# Altium schematic symbol library LP2985.SchLib: 18 symbols
Pins are listed as number, name and electrical type; pins without a type are passive.

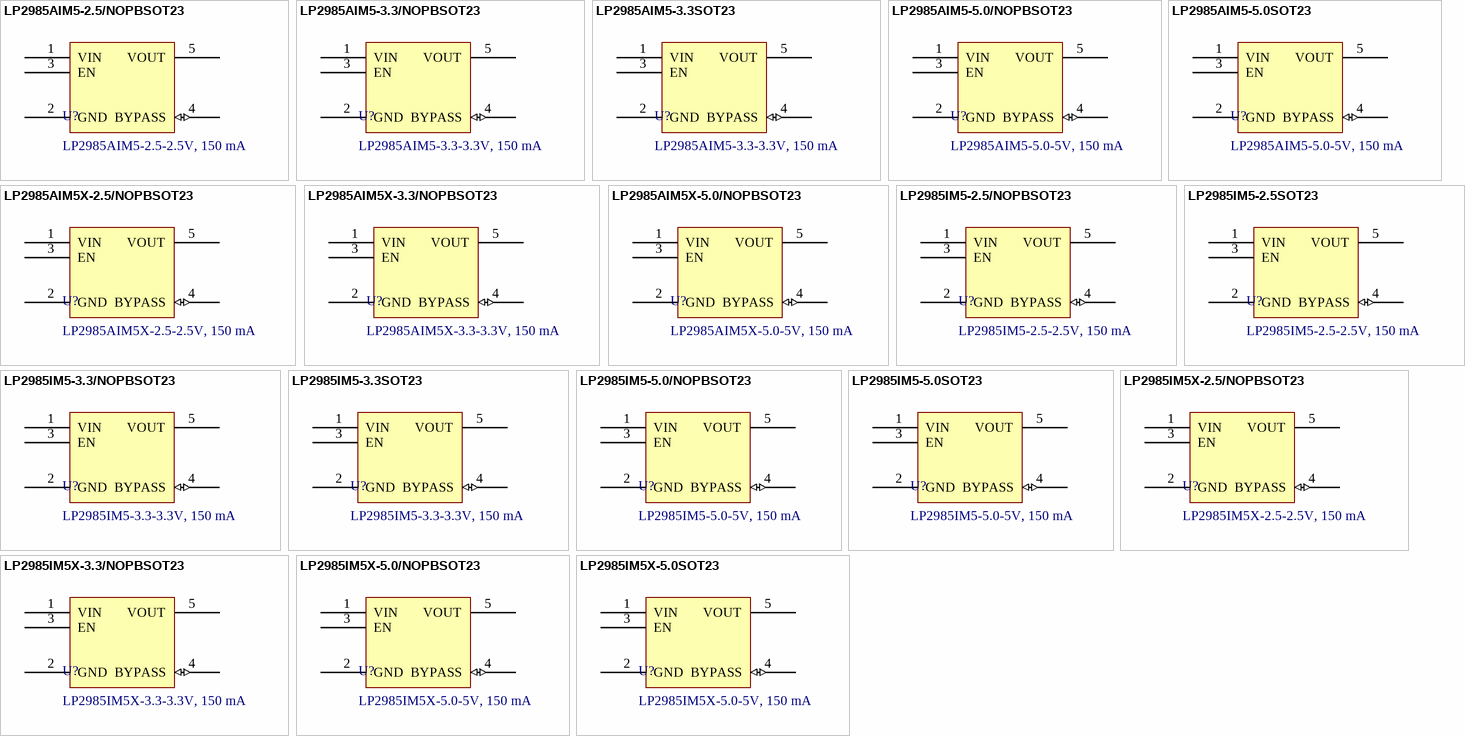
[diagram p0: symbols LP2985AIM5-2.5/NOPBSOT23 to LP2985IM5X-5.0SOT23]

## LP2985AIM5-2.5/NOPBSOT23
designator U?, comment LP2985AIM5-2.5-2.5V, 150 mA
Out: 2.5V, 150 mA max; In: 2.5 V to 16 V; Pacakge: SOT-23-5; Manufacturer: Texas Instruments; Number of Outputs: 150 mA; Voltage Input Maximum: 16V; Supplier 1 URL: https://www.mouser.vn/ProductDetail/Texas-Instruments/LP2985AIM5-2.5-NOPB?qs=7lkVKPoqpbYqZbTWBUr%2FQA%3D%3D; Supplier 2 URL: https://www.digikey.com/en/products/detail/texas-instruments/LP2985AIM5-2-5-NOPB/364583; Supplier 3 URL: N/A; Value: LP2985AIM5-2.5-2.5V, 150 mA; Voltage Output: 2.5V; Manufacturer Part Number: LP2985AIM5-2.5; Mount: SMD/SMT; Operating Temperature Max: + 85 C; Operating Temperature Min: - 40 C; Package / Case: SOT-23-5; Packaging: Tape and Reel; Supplier 1: Mouser; Supplier 1 Part Number: 926-LP2985AIM525NOPB; Supplier 2: Digi-Key; Supplier 2 Part Number: LP2985AIM5-2.5/NOPBTR-ND; Supplier 3: thegioiic; Supplier 3 Part Number: N/A; ComponentLink1Description: Datasheet; ComponentLink1URL: https://www.ti.com/lit/ds/symlink/lp2985.pdf?ts=1690340207505&ref_url=https%253A%252F%252Fwww.ti.com%252Fproduct%252FLP2985%253FkeyMatch%253DLM2985; LCSC Part #: N/A; Voltage Input Minimum: 2.5V
footprint SOT23-5 (SOT143-4 as used in SP0503BAHTG)
pins: 1 VIN (power) "Input supply pin. Use a capacitor with a value of 1 µF or larger from this pin to ground.", 2 GND, 3 EN "Enable pin for the LDO. Driving the ON/OFF pin high enables the device. Driving this pin low", 4 BYPASS (io) "BYPASS pin to achieve low noise performance. Connecting an external capacitor between", 5 VOUT (power) "Output of the regulator. Use a capacitor with a value of 2.2 µF or larger from this pin to"

## LP2985AIM5-3.3/NOPBSOT23
designator U?, comment LP2985AIM5-3.3-3.3V, 150 mA
Out: 3.3V, 150 mA max; In: 2.5 V to 16 V; Pacakge: SOT-23-5; Manufacturer: Texas Instruments; Number of Outputs: 150 mA; Voltage Input Maximum: 16V; Voltage Input Minimum: 2.5V; Supplier 1 URL: https://www.mouser.vn/ProductDetail/Texas-Instruments/LP2985AIM5-3.3-NOPB?qs=7lkVKPoqpba5AgutHXBYsA%3D%3D; Supplier 2 URL: https://www.digikey.com/en/products/detail/texas-instruments/LP2985AIM5-3-3-NOPB/364589?s=N4IgTCBcDaIDIAUwE4AcBWAggSQLLoFoBmAOiIHoA5AeQQCEQBdAXyA; Supplier 3 URL: https://www.thegioiic.com/lp2985-33dbvr-ic-on-ap-3-3v-150ma; Value: LP2985AIM5-3.3-3.3V, 150 mA; Voltage Output: 3.3V; Manufacturer Part Number: LP2985AIM5-3.3; Mount: SMD/SMT; Operating Temperature Max: + 85 C; Operating Temperature Min: - 40 C; Package / Case: SOT-23-5; Packaging: Tape and Reel; Supplier 1: Mouser; Supplier 1 Part Number: 926-2985AIM53.3/NOPB; Supplier 2: Digi-Key; Supplier 2 Part Number: LP2985AIM5-3.3/NOPBTR-ND; Supplier 3: thegioiic; Supplier 3 Part Number: N/A; ComponentLink1Description: Datasheet; ComponentLink1URL: https://www.ti.com/lit/ds/symlink/lp2985.pdf?ts=1690340207505&ref_url=https%253A%252F%252Fwww.ti.com%252Fproduct%252FLP2985%253FkeyMatch%253DLM2985; LCSC Part #: N/A
footprint SOT23-5 (SOT143-4 as used in SP0503BAHTG)
pins: 1 VIN (power) "Input supply pin. Use a capacitor with a value of 1 µF or larger from this pin to ground.", 2 GND, 3 EN "Enable pin for the LDO. Driving the ON/OFF pin high enables the device. Driving this pin low", 4 BYPASS (io) "BYPASS pin to achieve low noise performance. Connecting an external capacitor between", 5 VOUT (power) "Output of the regulator. Use a capacitor with a value of 2.2 µF or larger from this pin to"

## LP2985AIM5-3.3SOT23
designator U?, comment LP2985AIM5-3.3-3.3V, 150 mA
Out: 3.3V, 150 mA max; In: 2.5 V to 16 V; Pacakge: SOT-23-5; Manufacturer: Texas Instruments; Number of Outputs: 150 mA; Voltage Input Maximum: 16V; Voltage Input Minimum: 2.5V; Supplier 1 URL: https://www.mouser.vn/ProductDetail/Texas-Instruments/LP2985AIM5-3.3?qs=7lkVKPoqpbarLAafn%252BUbQg%3D%3D; Supplier 2 URL: https://www.digikey.com/en/products/detail/texas-instruments/LP2985AIM5-3-3/3698168; Supplier 3 URL: https://www.thegioiic.com/lp2985-33dbvr-ic-on-ap-3-3v-150ma; Value: LP2985AIM5-3.3-3.3V, 150 mA; Voltage Output: 3.3V; Manufacturer Part Number: LP2985AIM5-3.3; Mount: SMD/SMT; Operating Temperature Max: + 85 C; Operating Temperature Min: - 40 C; Package / Case: SOT-23-5; Packaging: Tape and Reel; Supplier 1: Mouser; Supplier 1 Part Number: 926-LP2985AIM5-33; Supplier 2: Digi-Key; Supplier 2 Part Number: 296-35910-2-ND; Supplier 3: thegioiic; Supplier 3 Part Number: N/A; ComponentLink1Description: Datasheet; ComponentLink1URL: https://www.ti.com/lit/ds/symlink/lp2985.pdf?ts=1690340207505&ref_url=https%253A%252F%252Fwww.ti.com%252Fproduct%252FLP2985%253FkeyMatch%253DLM2985; LCSC Part #: N/A
footprint SOT23-5 (SOT143-4 as used in SP0503BAHTG)
pins: 1 VIN (power) "Input supply pin. Use a capacitor with a value of 1 µF or larger from this pin to ground.", 2 GND, 3 EN "Enable pin for the LDO. Driving the ON/OFF pin high enables the device. Driving this pin low", 4 BYPASS (io) "BYPASS pin to achieve low noise performance. Connecting an external capacitor between", 5 VOUT (power) "Output of the regulator. Use a capacitor with a value of 2.2 µF or larger from this pin to"

## LP2985AIM5-5.0/NOPBSOT23
designator U?, comment LP2985AIM5-5.0-5V, 150 mA
Out: 5V, 150 mA max; In: 2.5 V to 16 V; Pacakge: SOT-23-5; Manufacturer: Texas Instruments; Number of Outputs: 150 mA; Voltage Input Maximum: 16V; Voltage Input Minimum: 2.5V; Supplier 1 URL: https://www.mouser.vn/ProductDetail/Texas-Instruments/LP2985AIM5-5.0-NOPB?qs=7lkVKPoqpbYsAhhQ4Pn4Tg%3D%3D; Supplier 2 URL: https://www.digikey.com/en/products/detail/texas-instruments/LP2985AIM5-5-0-NOPB/364591?s=N4IgTCBcDaIDIAUwE4AcBWAggSQLLoFp0A6ABgHoA5AeQQCEQBdAXyA; Supplier 3 URL: N/A; Value: LP2985AIM5-5.0-5V, 150 mA; Voltage Output: 5V; Manufacturer Part Number: LP2985AIM5-5.0; Mount: SMD/SMT; Operating Temperature Max: + 85 C; Operating Temperature Min: - 40 C; Package / Case: SOT-23-5; Packaging: Tape and Reel; Supplier 1: Mouser; Supplier 1 Part Number: 926-LP2985AIM550NOPB; Supplier 2: Digi-Key; Supplier 2 Part Number: LP2985AIM5-5.0/NOPBTR-ND; Supplier 3: thegioiic; Supplier 3 Part Number: N/A; ComponentLink1Description: Datasheet; ComponentLink1URL: https://www.ti.com/lit/ds/symlink/lp2985.pdf?ts=1690340207505&ref_url=https%253A%252F%252Fwww.ti.com%252Fproduct%252FLP2985%253FkeyMatch%253DLM2985; LCSC Part #: N/A
footprint SOT23-5 (SOT143-4 as used in SP0503BAHTG)
pins: 1 VIN (power) "Input supply pin. Use a capacitor with a value of 1 µF or larger from this pin to ground.", 2 GND, 3 EN "Enable pin for the LDO. Driving the ON/OFF pin high enables the device. Driving this pin low", 4 BYPASS (io) "BYPASS pin to achieve low noise performance. Connecting an external capacitor between", 5 VOUT (power) "Output of the regulator. Use a capacitor with a value of 2.2 µF or larger from this pin to"

## LP2985AIM5-5.0SOT23
designator U?, comment LP2985AIM5-5.0-5V, 150 mA
Out: 5V, 150 mA max; In: 2.5 V to 16 V; Pacakge: SOT-23-5; Manufacturer: Texas Instruments; Number of Outputs: 150 mA; Voltage Input Maximum: 16V; Voltage Input Minimum: 2.5V; Supplier 1 URL: https://www.mouser.vn/ProductDetail/Texas-Instruments/LP2985AIM5-5.0?qs=7lkVKPoqpba3%2FL%2F%2FI3%252BCew%3D%3D; Supplier 2 URL: https://www.digikey.com/en/products/detail/texas-instruments/LP2985AIM5-5-0/3701435; Supplier 3 URL: N/A; Value: LP2985AIM5-5.0-5V, 150 mA; Voltage Output: 5V; Manufacturer Part Number: LP2985AIM5-5.0; Mount: SMD/SMT; Operating Temperature Max: + 85 C; Operating Temperature Min: - 40 C; Package / Case: SOT-23-5; Packaging: Tape and Reel; Supplier 1: Mouser; Supplier 1 Part Number: 926-LP2985AIM5-50; Supplier 2: Digi-Key; Supplier 2 Part Number: LP2985AIM5-5.0TR-ND; Supplier 3: thegioiic; Supplier 3 Part Number: N/A; ComponentLink1Description: Datasheet; ComponentLink1URL: https://www.ti.com/lit/ds/symlink/lp2985.pdf?ts=1690340207505&ref_url=https%253A%252F%252Fwww.ti.com%252Fproduct%252FLP2985%253FkeyMatch%253DLM2985; LCSC Part #: N/A
footprint SOT23-5 (SOT143-4 as used in SP0503BAHTG)
pins: 1 VIN (power) "Input supply pin. Use a capacitor with a value of 1 µF or larger from this pin to ground.", 2 GND, 3 EN "Enable pin for the LDO. Driving the ON/OFF pin high enables the device. Driving this pin low", 4 BYPASS (io) "BYPASS pin to achieve low noise performance. Connecting an external capacitor between", 5 VOUT (power) "Output of the regulator. Use a capacitor with a value of 2.2 µF or larger from this pin to"

## LP2985AIM5X-2.5/NOPBSOT23
designator U?, comment LP2985AIM5X-2.5-2.5V, 150 mA
Out: 2.5V, 150 mA max; In: 2.5 V to 16 V; Pacakge: SOT-23-5; Manufacturer: Texas Instruments; Number of Outputs: 150 mA; Voltage Input Maximum: 16V; Supplier 1 URL: https://www.mouser.vn/ProductDetail/Texas-Instruments/LP2985AIM5X-2.5-NOPB?qs=7lkVKPoqpbYgRY%252BBsOv68w%3D%3D; Supplier 2 URL: https://www.digikey.com/en/products/detail/texas-instruments/LP2985AIM5X-2-5-NOPB/367665; Supplier 3 URL: N/A; Value: LP2985AIM5X-2.5-2.5V, 150 mA; Voltage Output: 2.5V; Manufacturer Part Number: LP2985AIM5X-2.5; Mount: SMD/SMT; Operating Temperature Max: + 85 C; Operating Temperature Min: - 40 C; Package / Case: SOT-23-5; Packaging: Tape and Reel; Supplier 1: Mouser; Supplier 1 Part Number: 926-LP2985AIM5X25NPB; Supplier 2: Digi-Key; Supplier 2 Part Number: 296-LP2985AIM5X-2.5/NOPBTR-ND; Supplier 3: thegioiic; Supplier 3 Part Number: N/A; ComponentLink1Description: Datasheet; ComponentLink1URL: https://www.ti.com/lit/ds/symlink/lp2985.pdf?ts=1690340207505&ref_url=https%253A%252F%252Fwww.ti.com%252Fproduct%252FLP2985%253FkeyMatch%253DLM2985; LCSC Part #: N/A; Voltage Input Minimum: 2.5V
footprint SOT23-5 (SOT143-4 as used in SP0503BAHTG)
pins: 1 VIN (power) "Input supply pin. Use a capacitor with a value of 1 µF or larger from this pin to ground.", 2 GND, 3 EN "Enable pin for the LDO. Driving the ON/OFF pin high enables the device. Driving this pin low", 4 BYPASS (io) "BYPASS pin to achieve low noise performance. Connecting an external capacitor between", 5 VOUT (power) "Output of the regulator. Use a capacitor with a value of 2.2 µF or larger from this pin to"

## LP2985AIM5X-3.3/NOPBSOT23
designator U?, comment LP2985AIM5X-3.3-3.3V, 150 mA
Out: 3.3V, 150 mA max; In: 2.5 V to 16 V; Pacakge: SOT-23-5; Manufacturer: Texas Instruments; Number of Outputs: 150 mA; Voltage Input Maximum: 16V; Voltage Input Minimum: 2.5V; Supplier 1 URL: https://www.mouser.vn/ProductDetail/Texas-Instruments/LP2985AIM5X-3.3-NOPB?qs=7lkVKPoqpbbp4pIqwI%2FBiQ%3D%3D; Supplier 2 URL: https://www.digikey.com/en/products/detail/texas-instruments/LP2985AIM5X-3-3-NOPB/367668; Supplier 3 URL: https://www.thegioiic.com/lp2985-33dbvr-ic-on-ap-3-3v-150ma; Value: LP2985AIM5X-3.3-3.3V, 150 mA; Voltage Output: 3.3V; Manufacturer Part Number: LP2985AIM5X-3.3; Mount: SMD/SMT; Operating Temperature Max: + 85 C; Operating Temperature Min: - 40 C; Package / Case: SOT-23-5; Packaging: Tape and Reel; Supplier 1: Mouser; Supplier 1 Part Number: 926-LP2985AIM5X33NPB; Supplier 2: Digi-Key; Supplier 2 Part Number: LP2985AIM5X-3.3/NOPBTR-ND; Supplier 3: thegioiic; Supplier 3 Part Number: N/A; ComponentLink1Description: Datasheet; ComponentLink1URL: https://www.ti.com/lit/ds/symlink/lp2985.pdf?ts=1690340207505&ref_url=https%253A%252F%252Fwww.ti.com%252Fproduct%252FLP2985%253FkeyMatch%253DLM2985; LCSC Part #: N/A
footprint SOT23-5 (SOT143-4 as used in SP0503BAHTG)
pins: 1 VIN (power) "Input supply pin. Use a capacitor with a value of 1 µF or larger from this pin to ground.", 2 GND, 3 EN "Enable pin for the LDO. Driving the ON/OFF pin high enables the device. Driving this pin low", 4 BYPASS (io) "BYPASS pin to achieve low noise performance. Connecting an external capacitor between", 5 VOUT (power) "Output of the regulator. Use a capacitor with a value of 2.2 µF or larger from this pin to"

## LP2985AIM5X-5.0/NOPBSOT23
designator U?, comment LP2985AIM5X-5.0-5V, 150 mA
Out: 5V, 150 mA max; In: 2.5 V to 16 V; Pacakge: SOT-23-5; Manufacturer: Texas Instruments; Number of Outputs: 150 mA; Voltage Input Maximum: 16V; Voltage Input Minimum: 2.5V; Supplier 1 URL: https://www.mouser.vn/ProductDetail/Texas-Instruments/LP2985AIM5X-5.0-NOPB?qs=7lkVKPoqpbZIPiotm0OF3A%3D%3D; Supplier 2 URL: https://www.digikey.com/en/products/detail/texas-instruments/LP2985AIM5X-5-0-NOPB/367669; Supplier 3 URL: N/A; Value: LP2985AIM5X-5.0-5V, 150 mA; Voltage Output: 5V; Manufacturer Part Number: LP2985AIM5X-5.0; Mount: SMD/SMT; Operating Temperature Max: + 85 C; Operating Temperature Min: - 40 C; Package / Case: SOT-23-5; Packaging: Tape and Reel; Supplier 1: Mouser; Supplier 1 Part Number: 926-LP2985AIM5X50NPB; Supplier 2: Digi-Key; Supplier 2 Part Number: LP2985AIM5X-5.0/NOPBTR-ND; Supplier 3: thegioiic; Supplier 3 Part Number: N/A; ComponentLink1Description: Datasheet; ComponentLink1URL: https://www.ti.com/lit/ds/symlink/lp2985.pdf?ts=1690340207505&ref_url=https%253A%252F%252Fwww.ti.com%252Fproduct%252FLP2985%253FkeyMatch%253DLM2985; LCSC Part #: N/A
footprint SOT23-5 (SOT143-4 as used in SP0503BAHTG)
pins: 1 VIN (power) "Input supply pin. Use a capacitor with a value of 1 µF or larger from this pin to ground.", 2 GND, 3 EN "Enable pin for the LDO. Driving the ON/OFF pin high enables the device. Driving this pin low", 4 BYPASS (io) "BYPASS pin to achieve low noise performance. Connecting an external capacitor between", 5 VOUT (power) "Output of the regulator. Use a capacitor with a value of 2.2 µF or larger from this pin to"

## LP2985IM5-2.5/NOPBSOT23
designator U?, comment LP2985IM5-2.5-2.5V, 150 mA
Out: 2.5V, 150 mA max; In: 2.5 V to 16 V; Pacakge: SOT-23-5; Manufacturer: Texas Instruments; Number of Outputs: 150 mA; Voltage Input Maximum: 16V; Supplier 1 URL: https://www.mouser.vn/ProductDetail/Texas-Instruments/LP2985IM5-2.5-NOPB?qs=7lkVKPoqpbaMRafyDveXFA%3D%3D; Supplier 2 URL: https://www.digikey.com/en/products/detail/texas-instruments/LP2985IM5-2-5-NOPB/364601; Supplier 3 URL: N/A; Value: LP2985IM5-2.5-2.5V, 150 mA; Voltage Output: 2.5V; Manufacturer Part Number: LP2985IM5-2.5; Mount: SMD/SMT; Operating Temperature Max: + 85 C; Operating Temperature Min: - 40 C; Package / Case: SOT-23-5; Packaging: Tape and Reel; Supplier 1: Mouser; Supplier 1 Part Number: 926-2985IM5-2.5/NOPB; Supplier 2: Digi-Key; Supplier 2 Part Number: LP2985IM5-2.5/NOPBTR-ND; Supplier 3: thegioiic; Supplier 3 Part Number: N/A; ComponentLink1Description: Datasheet; ComponentLink1URL: https://www.ti.com/lit/ds/symlink/lp2985.pdf?ts=1690340207505&ref_url=https%253A%252F%252Fwww.ti.com%252Fproduct%252FLP2985%253FkeyMatch%253DLM2985; LCSC Part #: N/A; Voltage Input Minimum: 2.5V
footprint SOT23-5 (SOT143-4 as used in SP0503BAHTG)
pins: 1 VIN (power) "Input supply pin. Use a capacitor with a value of 1 µF or larger from this pin to ground.", 2 GND, 3 EN "Enable pin for the LDO. Driving the ON/OFF pin high enables the device. Driving this pin low", 4 BYPASS (io) "BYPASS pin to achieve low noise performance. Connecting an external capacitor between", 5 VOUT (power) "Output of the regulator. Use a capacitor with a value of 2.2 µF or larger from this pin to"

## LP2985IM5-2.5SOT23
designator U?, comment LP2985IM5-2.5-2.5V, 150 mA
Out: 2.5V, 150 mA max; In: 2.5 V to 16 V; Pacakge: SOT-23-5; Manufacturer: Texas Instruments; Number of Outputs: 150 mA; Voltage Input Maximum: 16V; Supplier 1 URL: https://www.mouser.vn/ProductDetail/Texas-Instruments/LP2985IM5-2.5?qs=7lkVKPoqpbbb%2FE%2FIZr0hmA%3D%3D; Supplier 2 URL: https://www.digikey.com/en/products/detail/texas-instruments/LP2985IM5-2-5/2352713; Supplier 3 URL: N/A; Value: LP2985IM5-2.5-2.5V, 150 mA; Voltage Output: 2.5V; Manufacturer Part Number: LP2985IM5-2.5; Mount: SMD/SMT; Operating Temperature Max: + 85 C; Operating Temperature Min: - 40 C; Package / Case: SOT-23-5; Packaging: Tape and Reel; Supplier 1: Mouser; Supplier 1 Part Number: 926-LP2985IM5-25; Supplier 2: Digi-Key; Supplier 2 Part Number: 296-36265-2-ND; Supplier 3: thegioiic; Supplier 3 Part Number: N/A; ComponentLink1Description: Datasheet; ComponentLink1URL: https://www.ti.com/lit/ds/symlink/lp2985.pdf?ts=1690340207505&ref_url=https%253A%252F%252Fwww.ti.com%252Fproduct%252FLP2985%253FkeyMatch%253DLM2985; LCSC Part #: N/A; Voltage Input Minimum: 2.5V
footprint SOT23-5 (SOT143-4 as used in SP0503BAHTG)
pins: 1 VIN (power) "Input supply pin. Use a capacitor with a value of 1 µF or larger from this pin to ground.", 2 GND, 3 EN "Enable pin for the LDO. Driving the ON/OFF pin high enables the device. Driving this pin low", 4 BYPASS (io) "BYPASS pin to achieve low noise performance. Connecting an external capacitor between", 5 VOUT (power) "Output of the regulator. Use a capacitor with a value of 2.2 µF or larger from this pin to"

## LP2985IM5-3.3/NOPBSOT23
designator U?, comment LP2985IM5-3.3-3.3V, 150 mA
Out: 3.3V, 150 mA max; In: 2.5 V to 16 V; Pacakge: SOT-23-5; Manufacturer: Texas Instruments; Number of Outputs: 150 mA; Voltage Input Maximum: 16V; Voltage Input Minimum: 2.5V; Supplier 1 URL: https://www.mouser.vn/ProductDetail/Texas-Instruments/LP2985IM5-3.3-NOPB?qs=7lkVKPoqpbYPPbypQ1RJZg%3D%3D; Supplier 2 URL: https://www.digikey.com/en/products/detail/texas-instruments/LP2985IM5-3-3-NOPB/334961?s=N4IgTCBcDaIDIAUwE4AcBWAkgWXQWgGYA6AgegDkB5BAIRAF0BfIA; Supplier 3 URL: https://www.thegioiic.com/lp2985-33dbvr-ic-on-ap-3-3v-150ma; Value: LP2985IM5-3.3-3.3V, 150 mA; Voltage Output: 3.3V; Manufacturer Part Number: LP2985IM5-3.3; Mount: SMD/SMT; Operating Temperature Max: + 85 C; Operating Temperature Min: - 40 C; Package / Case: SOT-23-5; Packaging: Tape and Reel; Supplier 1: Mouser; Supplier 1 Part Number: 926-2985IM5-3.3/NOPB; Supplier 2: Digi-Key; Supplier 2 Part Number: LP2985IM5-3.3/NOPBTR-ND; Supplier 3: thegioiic; Supplier 3 Part Number: N/A; ComponentLink1Description: Datasheet; ComponentLink1URL: https://www.ti.com/lit/ds/symlink/lp2985.pdf?ts=1690340207505&ref_url=https%253A%252F%252Fwww.ti.com%252Fproduct%252FLP2985%253FkeyMatch%253DLM2985; LCSC Part #: N/A
footprint SOT23-5 (SOT143-4 as used in SP0503BAHTG)
pins: 1 VIN (power) "Input supply pin. Use a capacitor with a value of 1 µF or larger from this pin to ground.", 2 GND, 3 EN "Enable pin for the LDO. Driving the ON/OFF pin high enables the device. Driving this pin low", 4 BYPASS (io) "BYPASS pin to achieve low noise performance. Connecting an external capacitor between", 5 VOUT (power) "Output of the regulator. Use a capacitor with a value of 2.2 µF or larger from this pin to"

## LP2985IM5-3.3SOT23
designator U?, comment LP2985IM5-3.3-3.3V, 150 mA
Out: 3.3V, 150 mA max; In: 2.5 V to 16 V; Pacakge: SOT-23-5; Manufacturer: Texas Instruments; Number of Outputs: 150 mA; Voltage Input Maximum: 16V; Voltage Input Minimum: 2.5V; Supplier 1 URL: https://www.mouser.vn/ProductDetail/Texas-Instruments/LP2985IM5-3.3?qs=7lkVKPoqpbYyrbwrqf2JcA%3D%3D; Supplier 2 URL: https://www.digikey.com/en/products/detail/texas-instruments/LP2985IM5-3-3/3701436; Supplier 3 URL: https://www.thegioiic.com/lp2985-33dbvr-ic-on-ap-3-3v-150ma; Value: LP2985IM5-3.3-3.3V, 150 mA; Voltage Output: 3.3V; Manufacturer Part Number: LP2985IM5-3.3; Mount: SMD/SMT; Operating Temperature Max: + 85 C; Operating Temperature Min: - 40 C; Package / Case: SOT-23-5; Packaging: Tape and Reel; Supplier 1: Mouser; Supplier 1 Part Number: 926-LP2985IM5-33; Supplier 2: Digi-Key; Supplier 2 Part Number: LP2985IM5-3.3TR-ND; Supplier 3: thegioiic; Supplier 3 Part Number: N/A; ComponentLink1Description: Datasheet; ComponentLink1URL: https://www.ti.com/lit/ds/symlink/lp2985.pdf?ts=1690340207505&ref_url=https%253A%252F%252Fwww.ti.com%252Fproduct%252FLP2985%253FkeyMatch%253DLM2985; LCSC Part #: N/A
footprint SOT23-5 (SOT143-4 as used in SP0503BAHTG)
pins: 1 VIN (power) "Input supply pin. Use a capacitor with a value of 1 µF or larger from this pin to ground.", 2 GND, 3 EN "Enable pin for the LDO. Driving the ON/OFF pin high enables the device. Driving this pin low", 4 BYPASS (io) "BYPASS pin to achieve low noise performance. Connecting an external capacitor between", 5 VOUT (power) "Output of the regulator. Use a capacitor with a value of 2.2 µF or larger from this pin to"

## LP2985IM5-5.0/NOPBSOT23
designator U?, comment LP2985IM5-5.0-5V, 150 mA
Out: 5V, 150 mA max; In: 2.5 V to 16 V; Pacakge: SOT-23-5; Manufacturer: Texas Instruments; Number of Outputs: 150 mA; Voltage Input Maximum: 16V; Voltage Input Minimum: 2.5V; Supplier 1 URL: https://www.mouser.vn/ProductDetail/Texas-Instruments/LP2985IM5-5.0-NOPB?qs=7lkVKPoqpbY2QdMGYKhTqw%3D%3D; Supplier 2 URL: https://www.digikey.com/en/products/detail/texas-instruments/LP2985IM5-5-0-NOPB/334960?s=N4IgTCBcDaIDIAUwE4AcBWAkgWXQWnQDoAGAegDkB5BAIRAF0BfIA; Supplier 3 URL: N/A; Value: LP2985IM5-5.0-5V, 150 mA; Voltage Output: 5V; Manufacturer Part Number: LP2985IM5-5.0; Mount: SMD/SMT; Operating Temperature Max: + 85 C; Operating Temperature Min: - 40 C; Package / Case: SOT-23-5; Packaging: Tape and Reel; Supplier 1: Mouser; Supplier 1 Part Number: 926-LP2985IM55.0NOPB; Supplier 2: Digi-Key; Supplier 2 Part Number: LP2985IM5-5.0/NOPBTR-ND; Supplier 3: thegioiic; Supplier 3 Part Number: N/A; ComponentLink1Description: Datasheet; ComponentLink1URL: https://www.ti.com/lit/ds/symlink/lp2985.pdf?ts=1690340207505&ref_url=https%253A%252F%252Fwww.ti.com%252Fproduct%252FLP2985%253FkeyMatch%253DLM2985; LCSC Part #: N/A
footprint SOT23-5 (SOT143-4 as used in SP0503BAHTG)
pins: 1 VIN (power) "Input supply pin. Use a capacitor with a value of 1 µF or larger from this pin to ground.", 2 GND, 3 EN "Enable pin for the LDO. Driving the ON/OFF pin high enables the device. Driving this pin low", 4 BYPASS (io) "BYPASS pin to achieve low noise performance. Connecting an external capacitor between", 5 VOUT (power) "Output of the regulator. Use a capacitor with a value of 2.2 µF or larger from this pin to"

## LP2985IM5-5.0SOT23
designator U?, comment LP2985IM5-5.0-5V, 150 mA
Out: 5V, 150 mA max; In: 2.5 V to 16 V; Pacakge: SOT-23-5; Manufacturer: Texas Instruments; Number of Outputs: 150 mA; Voltage Input Maximum: 16V; Voltage Input Minimum: 2.5V; Supplier 1 URL: https://www.mouser.vn/ProductDetail/Texas-Instruments/LP2985IM5-5.0?qs=7lkVKPoqpbb8j6wBLu7kIA%3D%3D; Supplier 2 URL: https://www.digikey.com/en/products/detail/texas-instruments/LP2985IM5-5-0/3701437; Supplier 3 URL: N/A; Value: LP2985IM5-5.0-5V, 150 mA; Voltage Output: 5V; Manufacturer Part Number: LP2985IM5-5.0; Mount: SMD/SMT; Operating Temperature Max: + 85 C; Operating Temperature Min: - 40 C; Package / Case: SOT-23-5; Packaging: Tape and Reel; Supplier 1: Mouser; Supplier 1 Part Number: 926-LP2985IM5-50; Supplier 2: Digi-Key; Supplier 2 Part Number: LP2985IM5-5.0TR-ND; Supplier 3: thegioiic; Supplier 3 Part Number: N/A; ComponentLink1Description: Datasheet; ComponentLink1URL: https://www.ti.com/lit/ds/symlink/lp2985.pdf?ts=1690340207505&ref_url=https%253A%252F%252Fwww.ti.com%252Fproduct%252FLP2985%253FkeyMatch%253DLM2985; LCSC Part #: N/A
footprint SOT23-5 (SOT143-4 as used in SP0503BAHTG)
pins: 1 VIN (power) "Input supply pin. Use a capacitor with a value of 1 µF or larger from this pin to ground.", 2 GND, 3 EN "Enable pin for the LDO. Driving the ON/OFF pin high enables the device. Driving this pin low", 4 BYPASS (io) "BYPASS pin to achieve low noise performance. Connecting an external capacitor between", 5 VOUT (power) "Output of the regulator. Use a capacitor with a value of 2.2 µF or larger from this pin to"

## LP2985IM5X-2.5/NOPBSOT23
designator U?, comment LP2985IM5X-2.5-2.5V, 150 mA
Out: 2.5V, 150 mA max; In: 2.5 V to 16 V; Pacakge: SOT-23-5; Manufacturer: Texas Instruments; Number of Outputs: 150 mA; Voltage Input Maximum: 16V; Supplier 1 URL: https://www.mouser.vn/ProductDetail/Texas-Instruments/LP2985IM5X-2.5-NOPB?qs=7lkVKPoqpbaNr2n6OKnAUQ%3D%3D; Supplier 2 URL: https://www.digikey.com/en/products/detail/texas-instruments/LP2985IM5X-2-5-NOPB/367675?s=N4IgTCBcDaIDIAUwE4AcBWAkgWXQDQFowA6dAegDkB5BAIRAF0BfIA; Supplier 3 URL: N/A; Value: LP2985IM5X-2.5-2.5V, 150 mA; Voltage Output: 2.5V; Manufacturer Part Number: LP2985IM5X-2.5; Mount: SMD/SMT; Operating Temperature Max: + 85 C; Operating Temperature Min: - 40 C; Package / Case: SOT-23-5; Packaging: Tape and Reel; Supplier 1: Mouser; Supplier 1 Part Number: 926-LP2985IM5X25NOPB; Supplier 2: Digi-Key; Supplier 2 Part Number: 296-37597-2-ND; Supplier 3: thegioiic; Supplier 3 Part Number: N/A; ComponentLink1Description: Datasheet; ComponentLink1URL: https://www.ti.com/lit/ds/symlink/lp2985.pdf?ts=1690340207505&ref_url=https%253A%252F%252Fwww.ti.com%252Fproduct%252FLP2985%253FkeyMatch%253DLM2985; LCSC Part #: N/A; Voltage Input Minimum: 2.5V
footprint SOT23-5 (SOT143-4 as used in SP0503BAHTG)
pins: 1 VIN (power) "Input supply pin. Use a capacitor with a value of 1 µF or larger from this pin to ground.", 2 GND, 3 EN "Enable pin for the LDO. Driving the ON/OFF pin high enables the device. Driving this pin low", 4 BYPASS (io) "BYPASS pin to achieve low noise performance. Connecting an external capacitor between", 5 VOUT (power) "Output of the regulator. Use a capacitor with a value of 2.2 µF or larger from this pin to"

## LP2985IM5X-3.3/NOPBSOT23
designator U?, comment LP2985IM5X-3.3-3.3V, 150 mA
Out: 3.3V, 150 mA max; In: 2.5 V to 16 V; Pacakge: SOT-23-5; Manufacturer: Texas Instruments; Number of Outputs: 150 mA; Voltage Input Maximum: 16V; Voltage Input Minimum: 2.5V; Supplier 1 URL: https://www.mouser.vn/ProductDetail/Texas-Instruments/LP2985IM5X-3.3-NOPB?qs=7lkVKPoqpbarYOItF3geeg%3D%3D; Supplier 2 URL: https://www.digikey.com/en/products/detail/texas-instruments/LP2985IM5X-3-3-NOPB/367679; Supplier 3 URL: https://www.thegioiic.com/lp2985-33dbvr-ic-on-ap-3-3v-150ma; Value: LP2985IM5X-3.3-3.3V, 150 mA; Voltage Output: 3.3V; Manufacturer Part Number: LP2985IM5X-3.3; Mount: SMD/SMT; Operating Temperature Max: + 85 C; Operating Temperature Min: - 40 C; Package / Case: SOT-23-5; Packaging: Tape and Reel; Supplier 1: Mouser; Supplier 1 Part Number: 926-LP2985IM5X33NOPB; Supplier 2: Digi-Key; Supplier 2 Part Number: LP2985IM5X-3.3/NOPBTR-ND; Supplier 3: thegioiic; Supplier 3 Part Number: N/A; ComponentLink1Description: Datasheet; ComponentLink1URL: https://www.ti.com/lit/ds/symlink/lp2985.pdf?ts=1690340207505&ref_url=https%253A%252F%252Fwww.ti.com%252Fproduct%252FLP2985%253FkeyMatch%253DLM2985; LCSC Part #: N/A
footprint SOT23-5 (SOT143-4 as used in SP0503BAHTG)
pins: 1 VIN (power) "Input supply pin. Use a capacitor with a value of 1 µF or larger from this pin to ground.", 2 GND, 3 EN "Enable pin for the LDO. Driving the ON/OFF pin high enables the device. Driving this pin low", 4 BYPASS (io) "BYPASS pin to achieve low noise performance. Connecting an external capacitor between", 5 VOUT (power) "Output of the regulator. Use a capacitor with a value of 2.2 µF or larger from this pin to"

## LP2985IM5X-5.0/NOPBSOT23
designator U?, comment LP2985IM5X-5.0-5V, 150 mA
Out: 5V, 150 mA max; In: 2.5 V to 16 V; Pacakge: SOT-23-5; Manufacturer: Texas Instruments; Number of Outputs: 150 mA; Voltage Input Maximum: 16V; Voltage Input Minimum: 2.5V; Supplier 1 URL: https://www.mouser.vn/ProductDetail/Texas-Instruments/LP2985IM5X-5.0-NOPB?qs=7lkVKPoqpbZqObksDd83dw%3D%3D; Supplier 2 URL: https://www.digikey.com/en/products/detail/texas-instruments/LP2985IM5X-5-0-NOPB/367680; Supplier 3 URL: N/A; Value: LP2985IM5X-5.0-5V, 150 mA; Voltage Output: 5V; Manufacturer Part Number: LP2985IM5X-5.0; Mount: SMD/SMT; Operating Temperature Max: + 85 C; Operating Temperature Min: - 40 C; Package / Case: SOT-23-5; Packaging: Tape and Reel; Supplier 1: Mouser; Supplier 1 Part Number: 926-LP2985IM5X50NOPB; Supplier 2: Digi-Key; Supplier 2 Part Number: LP2985IM5X-5.0/NOPBTR-ND; Supplier 3: thegioiic; Supplier 3 Part Number: N/A; ComponentLink1Description: Datasheet; ComponentLink1URL: https://www.ti.com/lit/ds/symlink/lp2985.pdf?ts=1690340207505&ref_url=https%253A%252F%252Fwww.ti.com%252Fproduct%252FLP2985%253FkeyMatch%253DLM2985; LCSC Part #: N/A
footprint SOT23-5 (SOT143-4 as used in SP0503BAHTG)
pins: 1 VIN (power) "Input supply pin. Use a capacitor with a value of 1 µF or larger from this pin to ground.", 2 GND, 3 EN "Enable pin for the LDO. Driving the ON/OFF pin high enables the device. Driving this pin low", 4 BYPASS (io) "BYPASS pin to achieve low noise performance. Connecting an external capacitor between", 5 VOUT (power) "Output of the regulator. Use a capacitor with a value of 2.2 µF or larger from this pin to"

## LP2985IM5X-5.0SOT23
designator U?, comment LP2985IM5X-5.0-5V, 150 mA
Out: 5V, 150 mA max; In: 2.5 V to 16 V; Pacakge: SOT-23-5; Manufacturer: Texas Instruments; Number of Outputs: 150 mA; Voltage Input Maximum: 16V; Voltage Input Minimum: 2.5V; Supplier 1 URL: https://www.mouser.vn/ProductDetail/Texas-Instruments/LP2985IM5X-5.0?qs=7lkVKPoqpba%2FtUPktpLnaw%3D%3D; Supplier 2 URL: https://www.digikey.com/en/products/detail/texas-instruments/LP2985IM5X-5-0/3697186; Supplier 3 URL: N/A; Value: LP2985IM5X-5.0-5V, 150 mA; Voltage Output: 5V; Manufacturer Part Number: LP2985IM5X-5.0; Mount: SMD/SMT; Operating Temperature Max: + 85 C; Operating Temperature Min: - 40 C; Package / Case: SOT-23-5; Packaging: Tape and Reel; Supplier 1: Mouser; Supplier 1 Part Number: 926-LP2985IM5X-50; Supplier 2: Digi-Key; Supplier 2 Part Number: LP2985IM5X-5.0TR-ND; Supplier 3: thegioiic; Supplier 3 Part Number: N/A; ComponentLink1Description: Datasheet; ComponentLink1URL: https://www.ti.com/lit/ds/symlink/lp2985.pdf?ts=1690340207505&ref_url=https%253A%252F%252Fwww.ti.com%252Fproduct%252FLP2985%253FkeyMatch%253DLM2985; LCSC Part #: N/A
footprint SOT23-5 (SOT143-4 as used in SP0503BAHTG)
pins: 1 VIN (power) "Input supply pin. Use a capacitor with a value of 1 µF or larger from this pin to ground.", 2 GND, 3 EN "Enable pin for the LDO. Driving the ON/OFF pin high enables the device. Driving this pin low", 4 BYPASS (io) "BYPASS pin to achieve low noise performance. Connecting an external capacitor between", 5 VOUT (power) "Output of the regulator. Use a capacitor with a value of 2.2 µF or larger from this pin to"